# EAGLE library part 691401710012 (library Wurth_Elektronik_Electromechanic_Terminal_Blocks_Connectors_rev16b)
WR-TBL Terminal block - serie 401 5,0mm - Spring clamp/Screw less - horizontal entry Code:Con_TBL_Screwless_5.00_6914017100xxB Created 2014-12-22, aslant tao 2014 (C) Würth Elektronik
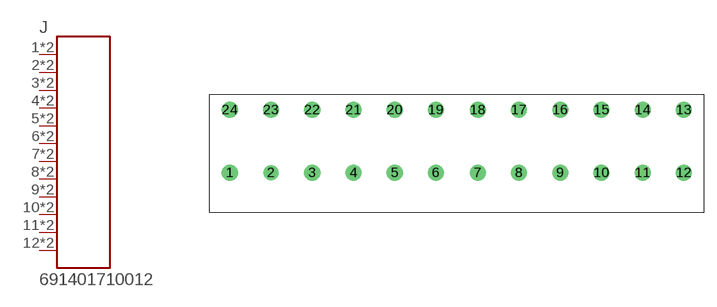
[diagram p218: symbol with the pads of 691401710012; footprint 691401710012]

Designator prefix J

## 691401710012  [691401710012]
1  1  pas
2  2  pas
3  3  pas
4  4  pas
5  5  pas
6  6  pas
7  7  pas
8  8  pas
9  9  pas
10  10  pas
11  11  pas
12  12  pas
13  12  pas
14  11  pas
15  10  pas
16  9  pas
17  8  pas
18  7  pas
19  6  pas
20  5  pas
21  4  pas
22  3  pas
23  2  pas
24  1  pas

## Footprint 691401710012 (pad centres in mm)
WR-TBL Serie 401 - 5.0mm Screwless Horizontal Entry - 2 mm2 Wires, 12 Pins
drill 1.3: 1 -29.76,-3.81; 3 -19.76,-3.81; 4 -14.76,-3.81; 5 -9.76,-3.81; 6 -4.76,-3.81; 7 0.32,-3.81; 8 5.32,-3.81; 9 10.32,-3.81; 10 15.32,-3.81; 11 20.32,-3.81; 12 25.32,-3.81; 13 25.32,3.81; 14 20.32,3.81; 15 15.32,3.81; 16 10.32,3.81; 17 5.32,3.81; 18 0.32,3.81; 19 -4.76,3.81; 20 -9.76,3.81; 21 -14.76,3.81; 22 -19.76,3.81; 23 -24.76,3.81; 24 -29.76,3.81
drill 1.2: 2 -24.76,-3.81